# Altium footprint library Microchips.PcbLib: 9 footprints
Each footprint in its own frame and in the unit in brackets; x right, y up, seen from the top. Pads: shape width x height; smd on the part's side, far side on the other; paste and mask are expansions set on the pad; w line width, h text height; cw(c..) or ccw(c..) is an arc to the next point about the centre after c.
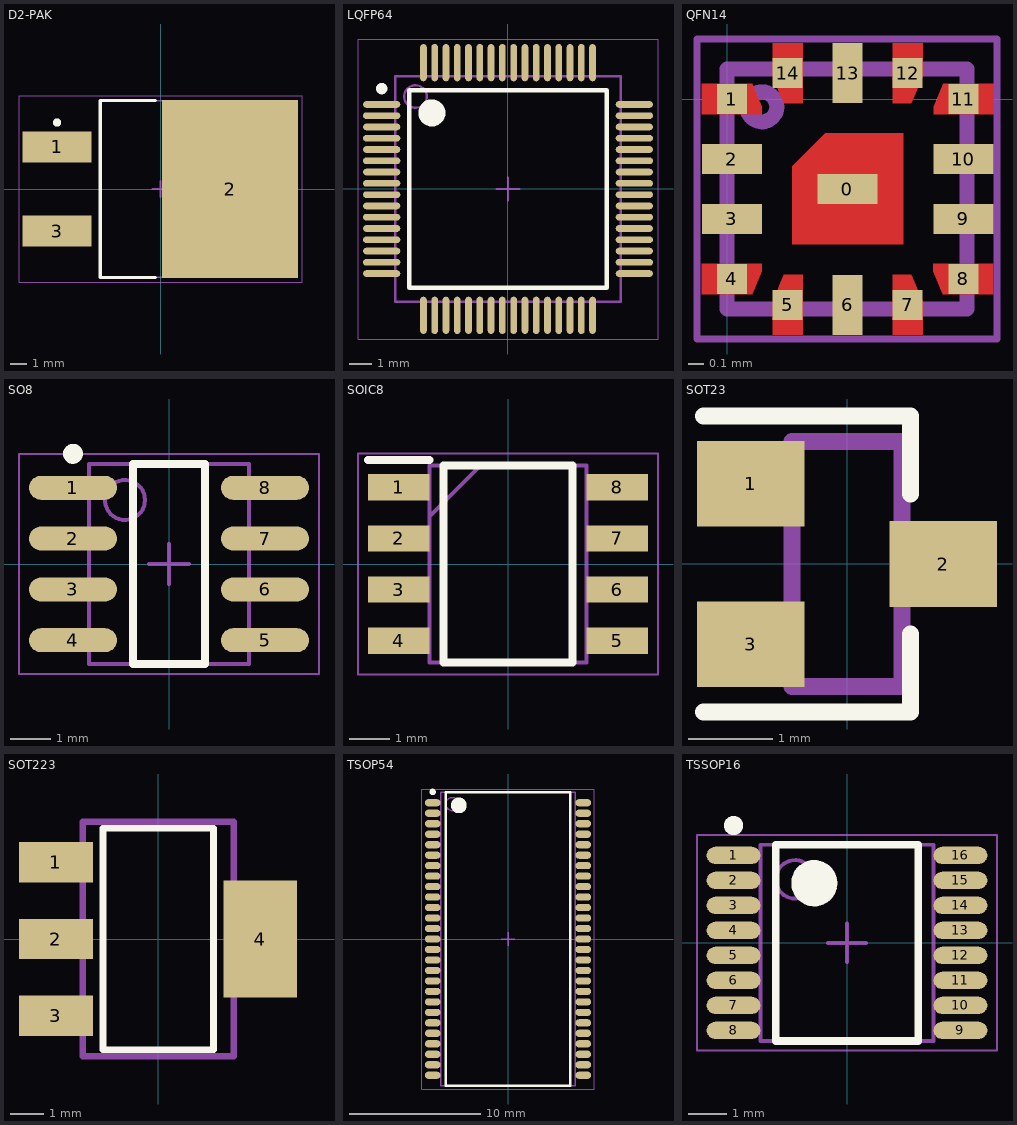
[diagram p0: the footprints below, top view; thin cyan lines are the x and y axes]

## D2-PAK [mm] "D2-PAK, 3-Pads, Body 7,93x8,69mm (max), IPC Medium Density"
height 4.83
pads (3):
  rect 4.15x1.85 smd: 1(-6.25,2.54) 3(-6.25,-2.54)
  rect 8.2x10.75 smd: 2(4.2,0)
Top Overlay:
  circle w0.25: c-6.25,4.015 r0.125
  lines w0.2: -0.3,-5.35 -3.65,-5.35 -3.65,5.35 -0.3,5.35
TopAssy:
  lines w0.1: -3.65,-5.325 -3.65,5.325 6,5.325 6,-5.325 -3.65,-5.325
Mechanical 15:
  lines w0.05: -8.55,-5.625 -8.55,5.625 8.55,5.625 8.55,-5.625 -8.55,-5.625
  lines w0.1: -0.5,0 0.5,0 ; 0,-0.5 0,0.5
3D body "User Library-DPAK.step": height 4.88, standoff -0.13, extent -7.717,-5.046 7.546,5.114

## LQFP64 [mm]
height 1.6
pads (64):
  oval 1.65x0.3 smd: 1(-5.6,3.75) 2(-5.6,3.25) 3(-5.6,2.75) 4(-5.6,2.25) 5(-5.6,1.75) 6(-5.6,1.25) 7(-5.6,0.75) 8(-5.6,0.25) 9(-5.6,-0.25) 10(-5.6,-0.75) 11(-5.6,-1.25) 12(-5.6,-1.75) 13(-5.6,-2.25) 14(-5.6,-2.75) 15(-5.6,-3.25) 16(-5.6,-3.75) 33(5.6,-3.75) 34(5.6,-3.25) 35(5.6,-2.75) 36(5.6,-2.25) 37(5.6,-1.75) 38(5.6,-1.25) 39(5.6,-0.75) 40(5.6,-0.25) 41(5.6,0.25) 42(5.6,0.75) 43(5.6,1.25) 44(5.6,1.75) 45(5.6,2.25) 46(5.6,2.75) 47(5.6,3.25) 48(5.6,3.75)
  oval 0.3x1.65 smd: 17(-3.75,-5.6) 18(-3.25,-5.6) 19(-2.75,-5.6) 20(-2.25,-5.6) 21(-1.75,-5.6) 22(-1.25,-5.6) 23(-0.75,-5.6) 24(-0.25,-5.6) 25(0.25,-5.6) 26(0.75,-5.6) 27(1.25,-5.6) 28(1.75,-5.6) 29(2.25,-5.6) 30(2.75,-5.6) 31(3.25,-5.6) 32(3.75,-5.6) 49(3.75,5.6) 50(3.25,5.6) 51(2.75,5.6) 52(2.25,5.6) 53(1.75,5.6) 54(1.25,5.6) 55(0.75,5.6) 56(0.25,5.6) 57(-0.25,5.6) 58(-0.75,5.6) 59(-1.25,5.6) 60(-1.75,5.6) 61(-2.25,5.6) 62(-2.75,5.6) 63(-3.25,5.6) 64(-3.75,5.6)
Top Overlay:
  circle w0.6: c-3.375,3.375 r0.3
  circle w0.25: c-5.6,4.45 r0.125
  lines w0.2: -4.375,-4.375 4.375,-4.375 4.375,4.375 -4.375,4.375 -4.375,-4.375
TopAssy:
  circle w0.1: c-4.1,4.1 r0.5
  lines w0.1: -5,-5 5,-5 5,5 -5,5 -5,-5
Mechanical 15:
  lines w0.05: -6.65,-6.65 6.65,-6.65 6.65,6.65 -6.65,6.65 -6.65,-6.65
  lines w0.1: -0.5,0 0.5,0 ; 0,-0.5 0,0.5
3D body "User Library-LQFP64-2.STEP": height 1.62, standoff -0.01, extent -6.072,-6.072 6.072,6.072

## QFN14 [mm]
pads (15):
  rect 0.4x0.2 smd mask+0.025: 0(0.8,-0.6) 2(0.03,-0.4) 3(0.03,-0.8) 9(1.574,-0.8) 10(1.574,-0.4)
  rrect0% 0.2x0.2 smd mask+0.025: 1(0.03,0) 4(0.03,-1.2) 5(0.402,-1.372) 7(1.202,-1.372) 8(1.574,-1.2) 11(1.574,0) 12(1.202,0.172) 14(0.402,0.172)
  rect 0.2x0.4 smd mask+0.025: 6(0.802,-1.372) 13(0.802,0.172)
Top Layer:
  region: 0.23,-1.148 0.166,-1.3 -0.17,-1.3 -0.17,-1.1 0.23,-1.1
  region: 1.302,-1.352 1.227,-1.172 1.102,-1.172 1.102,-1.572 1.302,-1.572
  region: 0.302,-1.352 0.377,-1.172 0.502,-1.172 0.502,-1.572 0.302,-1.572
  region: 0.302,0.152 0.377,-0.028 0.502,-0.028 0.502,0.372 0.302,0.372
  region: 1.172,-0.23 0.652,-0.23 0.432,-0.45 0.432,-0.97 1.172,-0.97
  region: 1.172,-0.97 1.172,-0.23 0.652,-0.23 0.432,-0.45 0.432,-0.97
  region: 0.23,-0.052 0.166,0.1 -0.17,0.1 -0.17,-0.1 0.23,-0.1
  region: 1.374,-1.148 1.438,-1.3 1.774,-1.3 1.774,-1.1 1.374,-1.1
  region: 1.377,-0.052 1.441,0.1 1.777,0.1 1.777,-0.1 1.377,-0.1
  region: 1.302,0.152 1.227,-0.028 1.102,-0.028 1.102,0.372 1.302,0.372
TopAssy:
  circle w0.1: c0.23,-0.052 r0.1
  lines w0.1: -0.002,-1.4 1.598,-1.4 1.598,0.2 -0.002,0.2 -0.002,-1.4
Mechanical 15:
  lines w0.05: -0.202,-1.6 -0.202,0.4 1.798,0.4 1.798,-1.6 -0.202,-1.6
Mechanical 16:
  lines w0.05: 0.55,-0.6 1.05,-0.6 ; 0.8,-0.85 0.8,-0.35
3D body: height 1.15, standoff 0.85, extent 0.648,-0.748 0.939,-0.452
3D body: height 0.48, standoff 0.05, extent 0.074,-0.204 0.374,0.096
3D body: height 0.47, standoff 0.02, extent -0.002,-1.4 1.598,0.2

## SO8 [mm]
height 1.75
pads (8):
  oval 2.2x0.6 smd: 1(-2.4,1.905) 2(-2.4,0.635) 3(-2.4,-0.635) 4(-2.4,-1.905) 5(2.4,-1.905) 6(2.4,-0.635) 7(2.4,0.635) 8(2.4,1.905)
Top Overlay:
  circle w0.25: c-2.4,2.755 r0.125
  lines w0.2: -0.9,-2.5 -0.9,2.5 0.9,2.5 0.9,-2.5 -0.9,-2.5
TopAssy:
  circle w0.1: c-1.1,1.6 r0.5
  lines w0.1: -2,-2.5 -2,2.5 2,2.5 2,-2.5 -2,-2.5
Mechanical 15:
  lines w0.05: -3.75,-2.75 -3.75,2.75 3.75,2.75 3.75,-2.75 -3.75,-2.75
  lines w0.1: -0.5,0 0.5,0 ; 0,-0.5 0,0.5
3D body: height 1.75, standoff 0.1, extent -2,-2.5 2,2.5

## SOIC8 [mm]
pads (8):
  rect 1.525x0.65 smd: 1(-2.712,1.905) 2(-2.712,0.635) 3(-2.712,-0.635) 4(-2.712,-1.905) 5(2.712,-1.905) 6(2.712,-0.635) 7(2.712,0.635) 8(2.712,1.905)
Top Overlay:
  lines w0.2: -3.475,2.58 -1.95,2.58 ; -1.6,-2.45 1.6,-2.45 1.6,2.45 -1.6,2.45 -1.6,-2.45
TopAssy:
  lines w0.1: -1.95,1.18 -0.68,2.45 ; -1.95,-2.45 1.95,-2.45 1.95,2.45 -1.95,2.45 -1.95,-2.45
Mechanical 15:
  lines w0.05: -3.725,-2.75 3.725,-2.75 3.725,2.75 -3.725,2.75 -3.725,-2.75
3D body "MAX1626ESA+.stp": height 1.75, standoff 0, extent -3,-2.45 3,2.45

## SOT23 [mm]
pads (3):
  rect 1.27x1.016 smd: 1(-1.14,0.95) 2(1.14,0) 3(-1.14,-0.95)
Top Overlay:
  lines w0.2: -1.7,-1.75 0.75,-1.75 0.75,-0.825 ; -1.7,1.75 0.75,1.75 0.75,0.825
TopAssy:
  lines w0.2: -0.9,-1.15 -0.9,-0.75 ; -0.9,0.75 -0.9,1.15 ; -0.65,-1.15 -1.2,-1.15 -1.2,-0.75 -0.65,-0.75 ; -0.65,0.75 -1.2,0.75 -1.2,1.15 -0.65,1.15 ; 0.65,-0.2 1.2,-0.2 1.2,0.2 0.65,0.2 ; 0.9,-0.2 0.9,0.2 ; -0.65,-1.45 -0.65,1.45 0.65,1.45 0.65,-1.45 -0.65,-1.45
3D body "SOT-23.STEP": height 1.1, standoff 0, extent -1.15,-1.5 1.15,1.5

## SOT223 [mil]
pads (4):
  rect 86.6x47.24 smd: 1(-120,90) 2(-120,0) 3(-120,-90)
  rect 86.6x137.8 smd: 4(120,0)
Top Overlay:
  lines w7.87: -64.8,-129.92 -64.8,129.92 65.12,129.92 65.12,-129.92 -64.8,-129.92
TopAssy:
  lines w7.87: -108.11,-106.3 -108.11,-74.8 ; -108.11,-15.75 -108.11,15.75 ; -108.11,74.8 -108.11,106.3 ; -88.43,-106.3 -127.8,-106.3 -127.8,-74.8 -88.43,-74.8 ; -88.43,-15.75 -127.8,-15.75 -127.8,15.75 -88.43,15.75 ; -88.43,74.8 -127.8,74.8 -127.8,106.3 -88.43,106.3 ; 88.74,-51.18 128.11,-51.18 128.11,51.18 88.74,51.18 ; 108.43,-51.18 108.43,51.18 ; -88.43,-137.8 -88.43,137.8 88.74,137.8 88.74,-137.8 -88.43,-137.8
3D body "SW3dPS-SOT-223-1.STEP": height 64.57, standoff -0.39, extent -137.8,-127.95 137.8,127.95

## TSOP54 [mm] "TSOP, 54-Leads, Body 22,22x10,16mm, Pitch 0,80mm, IPC Medium Density"
height 1.2
pads (54):
  oval 1.2x0.55 smd: 1(-5.75,10.4) 2(-5.75,9.6) 3(-5.75,8.8) 4(-5.75,8) 5(-5.75,7.2) 6(-5.75,6.4) 7(-5.75,5.6) 8(-5.75,4.8) 9(-5.75,4) 10(-5.75,3.2) 11(-5.75,2.4) 12(-5.75,1.6) 13(-5.75,0.8) 14(-5.75,0) 15(-5.75,-0.8) 16(-5.75,-1.6) 17(-5.75,-2.4) 18(-5.75,-3.2) 19(-5.75,-4) 20(-5.75,-4.8) 21(-5.75,-5.6) 22(-5.75,-6.4) 23(-5.75,-7.2) 24(-5.75,-8) 25(-5.75,-8.8) 26(-5.75,-9.6) 27(-5.75,-10.4) 28(5.75,-10.4) 29(5.75,-9.6) 30(5.75,-8.8) 31(5.75,-8) 32(5.75,-7.2) 33(5.75,-6.4) 34(5.75,-5.6) 35(5.75,-4.8) 36(5.75,-4) 37(5.75,-3.2) 38(5.75,-2.4) 39(5.75,-1.6) 40(5.75,-0.8) 41(5.75,0) 42(5.75,0.8) 43(5.75,1.6) 44(5.75,2.4) 45(5.75,3.2) 46(5.75,4) 47(5.75,4.8) 48(5.75,5.6) 49(5.75,6.4) 50(5.75,7.2) 51(5.75,8) 52(5.75,8.8) 53(5.75,9.6) 54(5.75,10.4)
Top Overlay:
  circle w0.6: c-3.75,10.2 r0.3
  circle w0.25: c-5.75,11.225 r0.125
  lines w0.2: -4.75,-11.2 4.75,-11.2 4.75,11.2 -4.75,11.2 -4.75,-11.2
TopAssy:
  circle w0.1: c-4.25,10.3 r0.5
  lines w0.1: -5.15,-11.2 5.15,-11.2 5.15,11.2 -5.15,11.2 -5.15,-11.2
Mechanical 15:
  lines w0.05: -6.6,-11.45 6.6,-11.45 6.6,11.45 -6.6,11.45 -6.6,-11.45
  lines w0.1: -0.5,0 0.5,0 ; 0,-0.5 0,0.5
3D body "TSOP 54.step": height 1.2, standoff 0, extent -5.88,-11.2 5.88,11.2

## TSSOP16 [mm]
height 1.2
pads (16):
  oval 1.4x0.45 smd: 1(-2.95,2.275) 2(-2.95,1.625) 3(-2.95,0.975) 4(-2.95,0.325) 5(-2.95,-0.325) 6(-2.95,-0.975) 7(-2.95,-1.625) 8(-2.95,-2.275) 9(2.95,-2.275) 10(2.95,-1.625) 11(2.95,-0.975) 12(2.95,-0.325) 13(2.95,0.325) 14(2.95,0.975) 15(2.95,1.625) 16(2.95,2.275)
Top Overlay:
  circle w0.25: c-2.95,3.05 r0.125
  circle w0.6: c-0.85,1.55 r0.3
  lines w0.2: -1.85,-2.55 -1.85,2.55 1.85,2.55 1.85,-2.55 -1.85,-2.55
TopAssy:
  circle w0.1: c-1.35,1.65 r0.5
  lines w0.1: -2.25,-2.55 -2.25,2.55 2.25,2.55 2.25,-2.55 -2.25,-2.55
Mechanical 15:
  lines w0.05: -3.9,-2.8 -3.9,2.8 3.9,2.8 3.9,-2.8 -3.9,-2.8
  lines w0.1: -0.5,0 0.5,0 ; 0,-0.5 0,0.5
3D body "TSSOP-16.step": height 1.2, standoff 0, extent -3.2,-2.55 3.2,2.55